# Altium footprint library ESP32.PcbLib: 1 footprints
Each footprint in its own frame and in the unit in brackets; x right, y up, seen from the top. Pads: shape width x height; smd on the part's side, far side on the other; paste and mask are expansions set on the pad; w line width, h text height; cw(c..) or ccw(c..) is an arc to the next point about the centre after c.
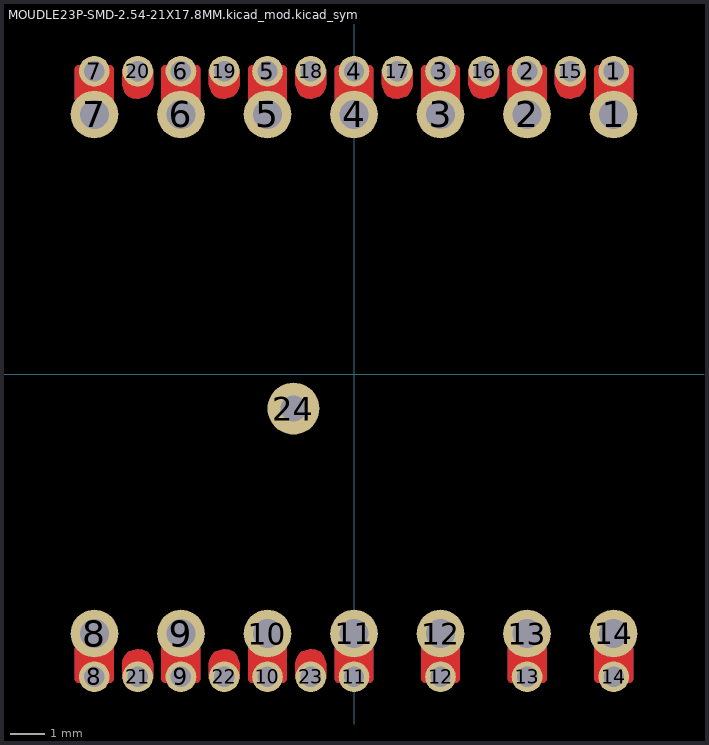
[diagram p0: the footprint, top view; thin cyan lines are the x and y axes]

## MOUDLE23P-SMD-2.54-21X17.8MM.kicad_mod.kicad_sym [mm]
pads (38):
  round 1.4 hole 0.85: 1(7.62,7.62) 2(5.08,7.62) 3(2.54,7.62) 4(0,7.62) 5(-2.54,7.62) 6(-5.08,7.62) 7(-7.62,7.62) 9(-5.08,-7.62) 10(-2.54,-7.62) 11(0,-7.62) 12(2.54,-7.62) 13(5.08,-7.62) 14(7.62,-7.62)
  round 0.9 hole 0.6: 1(7.62,8.89) 2(5.08,8.89) 3(2.54,8.89) 4(0,8.89) 5(-2.54,8.89) 6(-5.08,8.89) 7(-7.62,8.89) 8(-7.62,-8.89) 9(-5.08,-8.89) 10(-2.54,-8.89) 11(0,-8.89) 12(2.54,-8.89) 13(5.08,-8.89) 14(7.62,-8.89) 15(6.35,8.89) 16(3.81,8.89) 17(1.27,8.89) 18(-1.27,8.89) 19(-3.81,8.89) 20(-6.35,8.89) 21(-6.35,-8.89) 22(-3.81,-8.89) 23(-1.27,-8.89)
  round 1.4 hole 0.85 mask+0.102: 8(-7.62,-7.62)
  round 1.524 hole 0.762: 24(-1.778,-1.016)
F.Cu:
  region: -7.168,8.077 -8.072,8.077 -8.072,8.941 -7.168,8.941
  region: -7.168,-8.941 -8.072,-8.941 -8.072,-8.077 -7.168,-8.077
  region: -4.628,8.077 -5.532,8.077 -5.532,8.941 -4.628,8.941
  region: -4.628,-8.941 -5.532,-8.941 -5.532,-8.077 -4.628,-8.077
  region: -2.088,8.077 -2.992,8.077 -2.992,8.941 -2.088,8.941
  region: -2.088,-8.941 -2.992,-8.941 -2.992,-8.077 -2.088,-8.077
  region: 0.452,8.077 -0.452,8.077 -0.452,8.941 0.452,8.941
  region: 0.452,-8.941 -0.452,-8.941 -0.452,-8.077 0.452,-8.077
  region: 2.992,8.077 2.088,8.077 2.088,8.941 2.992,8.941
  region: 2.992,-8.941 2.088,-8.941 2.088,-8.077 2.992,-8.077
  region: 5.532,8.077 4.628,8.077 4.628,8.941 5.532,8.941
  region: 5.532,-8.941 4.628,-8.941 4.628,-8.077 5.532,-8.077
  region: 8.072,8.077 7.168,8.077 7.168,8.941 8.072,8.941
  region: 8.072,-8.941 7.168,-8.941 7.168,-8.077 8.072,-8.077
  region: -6.196,-8.098 -6.076,-8.159 -5.977,-8.258 -5.898,-8.501 -5.898,-8.941 -6.802,-8.941 -6.802,-8.505 -6.781,-8.375 -6.72,-8.255 -6.621,-8.156 -6.378,-8.077 -6.326,-8.077
  region: -5.898,8.505 -5.919,8.375 -5.98,8.255 -6.079,8.156 -6.322,8.077 -6.374,8.077 -6.504,8.098 -6.624,8.159 -6.723,8.258 -6.802,8.501 -6.802,8.941 -5.898,8.941
  region: -3.656,-8.098 -3.536,-8.159 -3.437,-8.258 -3.358,-8.501 -3.358,-8.941 -4.262,-8.941 -4.262,-8.505 -4.241,-8.375 -4.18,-8.255 -4.081,-8.156 -3.838,-8.077 -3.786,-8.077
  region: -3.358,8.505 -3.379,8.375 -3.44,8.255 -3.539,8.156 -3.782,8.077 -3.834,8.077 -3.964,8.098 -4.084,8.159 -4.183,8.258 -4.262,8.501 -4.262,8.941 -3.358,8.941
  region: -1.116,-8.098 -0.996,-8.159 -0.897,-8.258 -0.818,-8.501 -0.818,-8.941 -1.722,-8.941 -1.722,-8.505 -1.701,-8.375 -1.64,-8.255 -1.541,-8.156 -1.298,-8.077 -1.246,-8.077
  region: -0.818,8.505 -0.839,8.375 -0.9,8.255 -0.999,8.156 -1.242,8.077 -1.294,8.077 -1.424,8.098 -1.544,8.159 -1.643,8.258 -1.722,8.501 -1.722,8.941 -0.818,8.941
  region: 1.722,8.505 1.701,8.375 1.64,8.255 1.541,8.156 1.298,8.077 1.246,8.077 1.116,8.098 0.996,8.159 0.897,8.258 0.818,8.501 0.818,8.941 1.722,8.941
  region: 4.262,8.505 4.241,8.375 4.18,8.255 4.081,8.156 3.838,8.077 3.786,8.077 3.656,8.098 3.536,8.159 3.437,8.258 3.358,8.501 3.358,8.941 4.262,8.941
  region: 6.802,8.505 6.781,8.375 6.72,8.255 6.621,8.156 6.378,8.077 6.326,8.077 6.196,8.098 6.076,8.159 5.977,8.258 5.898,8.501 5.898,8.941 6.802,8.941
  lines w0.254: -8.072,-8.941 -8.072,-8.077 -7.168,-8.077 -7.168,-8.941 -8.072,-8.941 ; -8.072,8.077 -8.072,8.941 -7.168,8.941 -7.168,8.077 -8.072,8.077 ; -5.532,-8.941 -5.532,-8.077 -4.628,-8.077 -4.628,-8.941 -5.532,-8.941 ; -5.532,8.077 -5.532,8.941 -4.628,8.941 -4.628,8.077 -5.532,8.077 ; -2.992,-8.941 -2.992,-8.077 -2.088,-8.077 -2.088,-8.941 -2.992,-8.941 ; -2.992,8.077 -2.992,8.941 -2.088,8.941 -2.088,8.077 -2.992,8.077 ; -0.452,-8.941 -0.452,-8.077 0.452,-8.077 0.452,-8.941 -0.452,-8.941 ; -0.452,8.077 -0.452,8.941 0.452,8.941 0.452,8.077 -0.452,8.077 ; 2.088,-8.941 2.088,-8.077 2.992,-8.077 2.992,-8.941 2.088,-8.941 ; 2.088,8.077 2.088,8.941 2.992,8.941 2.992,8.077 2.088,8.077 ; 4.628,-8.941 4.628,-8.077 5.532,-8.077 5.532,-8.941 4.628,-8.941 ; 4.628,8.077 4.628,8.941 5.532,8.941 5.532,8.077 4.628,8.077 ; 7.168,-8.941 7.168,-8.077 8.072,-8.077 8.072,-8.941 7.168,-8.941 ; 7.168,8.077 7.168,8.941 8.072,8.941 8.072,8.077 7.168,8.077
B.Cu:
  region: -7.168,8.077 -8.072,8.077 -8.072,8.941 -7.168,8.941
  region: -7.168,-8.941 -8.072,-8.941 -8.072,-8.077 -7.168,-8.077
  region: -4.628,8.077 -5.532,8.077 -5.532,8.941 -4.628,8.941
  region: -4.628,-8.941 -5.532,-8.941 -5.532,-8.077 -4.628,-8.077
  region: -2.088,8.077 -2.992,8.077 -2.992,8.941 -2.088,8.941
  region: -2.088,-8.941 -2.992,-8.941 -2.992,-8.077 -2.088,-8.077
  region: 0.452,8.077 -0.452,8.077 -0.452,8.941 0.452,8.941
  region: 0.452,-8.941 -0.452,-8.941 -0.452,-8.077 0.452,-8.077
  region: 2.992,8.077 2.088,8.077 2.088,8.941 2.992,8.941
  region: 2.992,-8.941 2.088,-8.941 2.088,-8.077 2.992,-8.077
  region: 5.532,8.077 4.628,8.077 4.628,8.941 5.532,8.941
  region: 5.532,-8.941 4.628,-8.941 4.628,-8.077 5.532,-8.077
  region: 8.072,8.077 7.168,8.077 7.168,8.941 8.072,8.941
  region: 8.072,-8.941 7.168,-8.941 7.168,-8.077 8.072,-8.077
  region: -6.196,-8.098 -6.076,-8.159 -5.977,-8.258 -5.898,-8.501 -5.898,-8.941 -6.802,-8.941 -6.802,-8.505 -6.781,-8.375 -6.72,-8.255 -6.621,-8.156 -6.378,-8.077 -6.326,-8.077
  region: -5.898,8.505 -5.919,8.375 -5.98,8.255 -6.079,8.156 -6.322,8.077 -6.374,8.077 -6.504,8.098 -6.624,8.159 -6.723,8.258 -6.802,8.501 -6.802,8.941 -5.898,8.941
  region: -3.656,-8.098 -3.536,-8.159 -3.437,-8.258 -3.358,-8.501 -3.358,-8.941 -4.262,-8.941 -4.262,-8.505 -4.241,-8.375 -4.18,-8.255 -4.081,-8.156 -3.838,-8.077 -3.786,-8.077
  region: -3.358,8.505 -3.379,8.375 -3.44,8.255 -3.539,8.156 -3.782,8.077 -3.834,8.077 -3.964,8.098 -4.084,8.159 -4.183,8.258 -4.262,8.501 -4.262,8.941 -3.358,8.941
  region: -1.116,-8.098 -0.996,-8.159 -0.897,-8.258 -0.818,-8.501 -0.818,-8.941 -1.722,-8.941 -1.722,-8.505 -1.701,-8.375 -1.64,-8.255 -1.541,-8.156 -1.298,-8.077 -1.246,-8.077
  region: -0.818,8.505 -0.839,8.375 -0.9,8.255 -0.999,8.156 -1.242,8.077 -1.294,8.077 -1.424,8.098 -1.544,8.159 -1.643,8.258 -1.722,8.501 -1.722,8.941 -0.818,8.941
  region: 1.722,8.505 1.701,8.375 1.64,8.255 1.541,8.156 1.298,8.077 1.246,8.077 1.116,8.098 0.996,8.159 0.897,8.258 0.818,8.501 0.818,8.941 1.722,8.941
  region: 4.262,8.505 4.241,8.375 4.18,8.255 4.081,8.156 3.838,8.077 3.786,8.077 3.656,8.098 3.536,8.159 3.437,8.258 3.358,8.501 3.358,8.941 4.262,8.941
  region: 6.802,8.505 6.781,8.375 6.72,8.255 6.621,8.156 6.378,8.077 6.326,8.077 6.196,8.098 6.076,8.159 5.977,8.258 5.898,8.501 5.898,8.941 6.802,8.941
  lines w0.254: -8.072,-8.941 -7.168,-8.941 -7.168,-8.077 -8.072,-8.077 -8.072,-8.941 ; -8.072,8.077 -8.072,8.941 -7.168,8.941 -7.168,8.077 -8.072,8.077 ; -5.532,-8.941 -5.532,-8.077 -4.628,-8.077 -4.628,-8.941 -5.532,-8.941 ; -5.532,8.077 -5.532,8.941 -4.628,8.941 -4.628,8.077 -5.532,8.077 ; -2.992,-8.941 -2.992,-8.077 -2.088,-8.077 -2.088,-8.941 -2.992,-8.941 ; -2.992,8.077 -2.992,8.941 -2.088,8.941 -2.088,8.077 -2.992,8.077 ; -0.452,-8.941 -0.452,-8.077 0.452,-8.077 0.452,-8.941 -0.452,-8.941 ; -0.452,8.077 -0.452,8.941 0.452,8.941 0.452,8.077 -0.452,8.077 ; 2.088,-8.941 2.088,-8.077 2.992,-8.077 2.992,-8.941 2.088,-8.941 ; 2.088,8.077 2.088,8.941 2.992,8.941 2.992,8.077 2.088,8.077 ; 4.628,-8.941 4.628,-8.077 5.532,-8.077 5.532,-8.941 4.628,-8.941 ; 4.628,8.077 4.628,8.941 5.532,8.941 5.532,8.077 4.628,8.077 ; 7.168,-8.941 7.168,-8.077 8.072,-8.077 8.072,-8.941 7.168,-8.941 ; 7.168,8.077 7.168,8.941 8.072,8.941 8.072,8.077 7.168,8.077
F.Mask:
  drawing of 79 lines, arcs and shapes, not listed
B.Mask:
  drawing of 79 lines, arcs and shapes, not listed
3D body "XIAO-ESP32S3-PLUS_-5422b7ff-d23e-49cd-a0c3-13d080d6e22a.step": height 4.21, standoff -0.21, extent -10.456,-8.89 12.181,8.89